# EAGLE library part DIL28 (library ic-package_modified)
Dual In Line
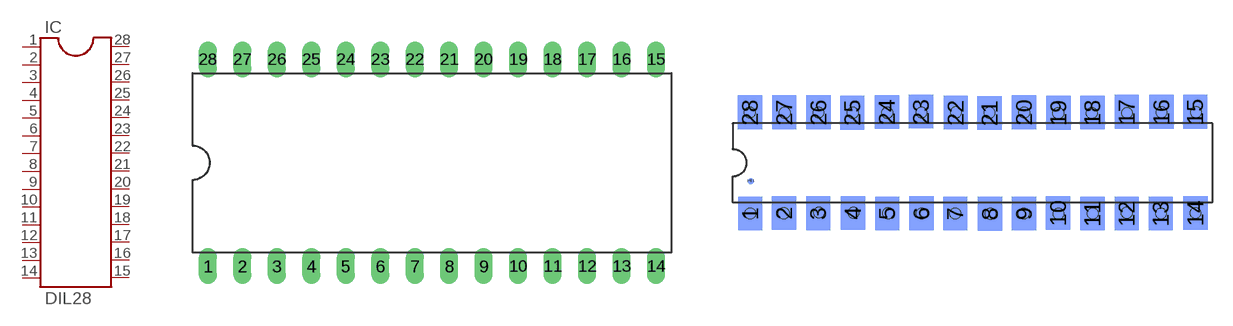
[diagram p9: symbol with the pads of DIL28-6; footprints DIL28-6, DIL28-3]

Designator prefix IC

## DIL28  [DIL28-6]
1  1  pas
2  2  pas
3  3  pas
4  4  pas
5  5  pas
6  6  pas
7  7  pas
8  8  pas
9  9  pas
10  10  pas
11  11  pas
12  12  pas
13  13  pas
14  14  pas
15  15  pas
16  16  pas
17  17  pas
18  18  pas
19  19  pas
20  20  pas
21  21  pas
22  22  pas
23  23  pas
24  24  pas
25  25  pas
26  26  pas
27  27  pas
28  28  pas

## DIL28-3  [DIL28-3]
Pads as for DIL28-6

## DIL28-4  [DIL28-4]
Pads as for DIL28-6

## DIL28DIL28-3_MODIFIED  [DIL28-3]
Pads as for DIL28-6

## Footprint DIL28-6 (pad centres in mm)
Dual In Line Package 0.6 inch
drill 0.813 long: 1 -16.51,-7.62; 2 -13.97,-7.62; 3 -11.43,-7.62; 4 -8.89,-7.62; 5 -6.35,-7.62; 6 -3.81,-7.62; 7 -1.27,-7.62; 8 1.27,-7.62; 9 3.81,-7.62; 10 6.35,-7.62; 11 8.89,-7.62; 12 11.43,-7.62; 13 13.97,-7.62; 14 16.51,-7.62; 15 16.51,7.62; 16 13.97,7.62; 17 11.43,7.62; 18 8.89,7.62; 19 6.35,7.62; 20 3.81,7.62; 21 1.27,7.62; 22 -1.27,7.62; 23 -3.81,7.62; 24 -6.35,7.62; 25 -8.89,7.62; 26 -11.43,7.62; 27 -13.97,7.62; 28 -16.51,7.62

## Footprint DIL28-3 (pad centres in mm)
Dual In Line Package Small
smd 1.8 x 2.5 bottom: 1 -16.48,-3.75; 2 -13.97,-3.71; 3 -11.44,-3.74; 4 -8.87,-3.73; 5 -6.32,-3.76; 6 -3.78,-3.74; 7 -1.28,-3.76; 8 1.3,-3.78; 9 3.82,-3.76; 10 6.35,-3.72; 11 8.89,-3.76; 12 11.43,-3.75; 13 13.96,-3.75; 14 16.53,-3.72; 15 16.51,3.78; 16 14.01,3.78; 17 11.44,3.78; 18 8.89,3.73; 19 6.37,3.72; 20 3.82,3.75; 21 1.27,3.7; 22 -1.25,3.73; 23 -3.82,3.8; 24 -6.35,3.77; 25 -8.91,3.72; 26 -11.42,3.75; 27 -13.96,3.75; 28 -16.5,3.75
smd 0.5 x 0.5 bottom: P$1 -16.45,-1.35
hole 0.8 at -16.48,-3.75
hole 0.8 at -14,-3.73
hole 0.8 at -11.39,-3.69
hole 0.8 at -8.82,-3.7
hole 0.8 at -6.26,-3.73
hole 0.8 at -3.77,-3.76
hole 0.8 at -1.28,-3.75
hole 0.8 at 1.34,-3.77
hole 0.8 at 3.8,-3.75
hole 0.8 at 6.38,-3.78
hole 0.8 at 8.92,-3.76
hole 0.8 at 11.44,-3.71
hole 0.8 at 13.98,-3.76
hole 0.8 at 16.53,-3.72
hole 0.8 at -16.51,3.73
hole 0.8 at -13.92,3.72
hole 0.8 at -11.42,3.73
hole 0.8 at -8.88,3.71
hole 0.8 at -6.32,3.71
hole 0.8 at -3.78,3.73
hole 0.8 at -1.23,3.74
hole 0.8 at 1.26,3.71
hole 0.8 at 3.84,3.73
hole 0.8 at 6.36,3.68
hole 0.8 at 8.85,3.7
hole 0.8 at 11.45,3.7
hole 0.8 at 14.01,3.74
hole 0.8 at 16.58,3.74

## Footprint DIL28-4 (pad centres in mm)
Dual In Line Package
drill 0.813 long: 1 -16.51,-5.08; 2 -13.97,-5.08; 3 -11.43,-5.08; 4 -8.89,-5.08; 5 -6.35,-5.08; 6 -3.81,-5.08; 7 -1.27,-5.08; 8 1.27,-5.08; 9 3.81,-5.08; 10 6.35,-5.08; 11 8.89,-5.08; 12 11.43,-5.08; 13 13.97,-5.08; 14 16.51,-5.08; 15 16.51,5.08; 16 13.97,5.08; 17 11.43,5.08; 18 8.89,5.08; 19 6.35,5.08; 20 3.81,5.08; 21 1.27,5.08; 22 -1.27,5.08; 23 -3.81,5.08; 24 -6.35,5.08; 25 -8.89,5.08; 26 -11.43,5.08; 27 -13.97,5.08; 28 -16.51,5.08